# EAGLE library part LM723C (library 1A-meinLib)
Voltage Regulator, 2..37V, 150mA, Line Regulation: 0.01%
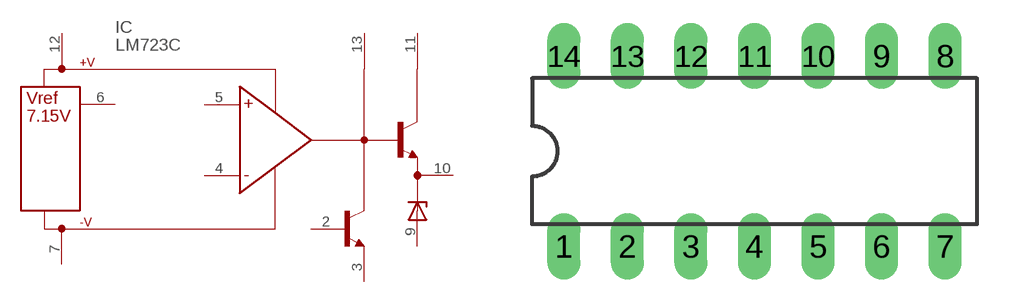
[diagram p177: symbol with the pads of DIL14; footprint DIL14]

Designator prefix IC

## LM723C  [DIL14]
2  CL  in
3  CS  pas
4  -IN  in
5  +IN  in
6  VREF  out
7  V-  pas
9  VZ  pas
10  VOUT  out
11  VC  pas
12  V+  pas
13  FCOMP  pas

## Footprint DIL14 (pad centres in mm)
Dual In Line Package
drill 0.813 long: 1 -7.62,-3.81; 2 -5.08,-3.81; 3 -2.54,-3.81; 4 0,-3.81; 5 2.54,-3.81; 6 5.08,-3.81; 7 7.62,-3.81; 8 7.62,3.81; 9 5.08,3.81; 10 2.54,3.81; 11 0,3.81; 12 -2.54,3.81; 13 -5.08,3.81; 14 -7.62,3.81